# Altium schematic symbol library 43045-0201.SchLib: 1 symbol
Pins are listed as number, name and electrical type; pins without a type are passive.

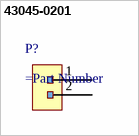
[diagram p0: symbol 43045-0201]

## 43045-0201
designator P?
=Description
pins: 1, 2